# Altium footprint library components.PcbLib: 2 footprints
Each footprint in its own frame and in the unit in brackets; x right, y up, seen from the top. Pads: shape width x height; smd on the part's side, far side on the other; paste and mask are expansions set on the pad; w line width, h text height; cw(c..) or ccw(c..) is an arc to the next point about the centre after c.
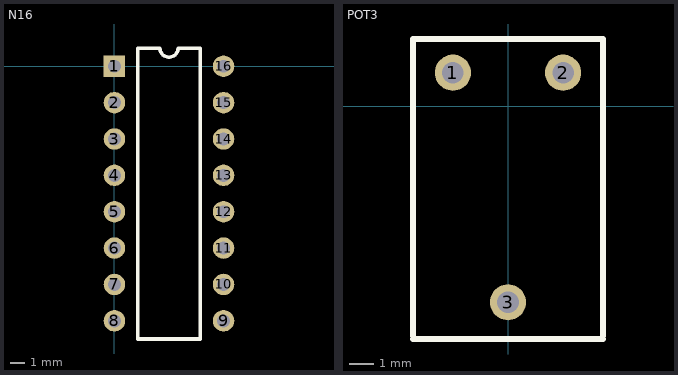
[diagram p0: the footprints below, top view; thin cyan lines are the x and y axes]

## N16 [mm]
pads (16):
  rect 1.5x1.5 hole 0.9: 1(0,0)
  round 1.5 hole 0.9: 2(0,-2.54) 3(0,-5.08) 4(0,-7.62) 5(0,-10.16) 6(0,-12.7) 7(0,-15.24) 8(0,-17.78) 9(7.62,-17.78) 10(7.62,-15.24) 11(7.62,-12.7) 12(7.62,-10.16) 13(7.62,-7.62) 14(7.62,-5.08) 15(7.62,-2.54) 16(7.62,0)
Top Overlay:
  lines w0.254: 1.639,-19.05 5.981,-19.05 5.981,1.27 4.445,1.27 cw(c3.81,1.27) 3.175,1.27 1.639,1.27 1.639,-19.05

## POT3 [mm]
pads (3):
  round 1.5 hole 0.9: 1(-2.286,1.397) 2(2.286,1.397) 3(0,-8.128)
Top Overlay:
  lines w0.254: -3.949,-9.525 -3.949,0.254 -3.949,2.794 3.937,2.794 3.937,-9.525 ; -3.937,-9.652 3.949,-9.652